# Altium schematic symbol library STM32F030F4P6.Schlib: 1 symbol
Pins are listed as number, name and electrical type; pins without a type are passive.

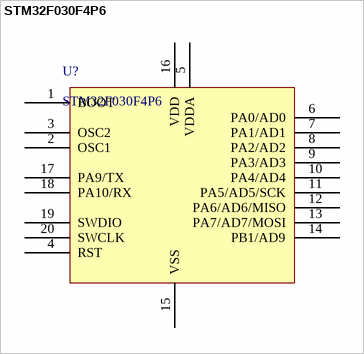
[diagram p0: symbol STM32F030F4P6]

## STM32F030F4P6
designator U?
pins: 1 BOOT, 2 OSC1, 3 OSC2, 4 RST, 5 VDDA, 6 PA0/AD0, 7 PA1/AD1, 8 PA2/AD2, 9 PA3/AD3, 10 PA4/AD4, 11 PA5/AD5/SCK, 12 PA6/AD6/MISO, 13 PA7/AD7/MOSI, 14 PB1/AD9, 15 VSS, 16 VDD, 17 PA9/TX, 18 PA10/RX, 19 SWDIO, 20 SWCLK